# Altium footprint library TO.PcbLib: 23 footprints (part 2 of 2)
Each footprint in its own frame and in the unit in brackets; x right, y up, seen from the top. Pads: shape width x height; smd on the part's side, far side on the other; paste and mask are expansions set on the pad; w line width, h text height; cw(c..) or ccw(c..) is an arc to the next point about the centre after c.
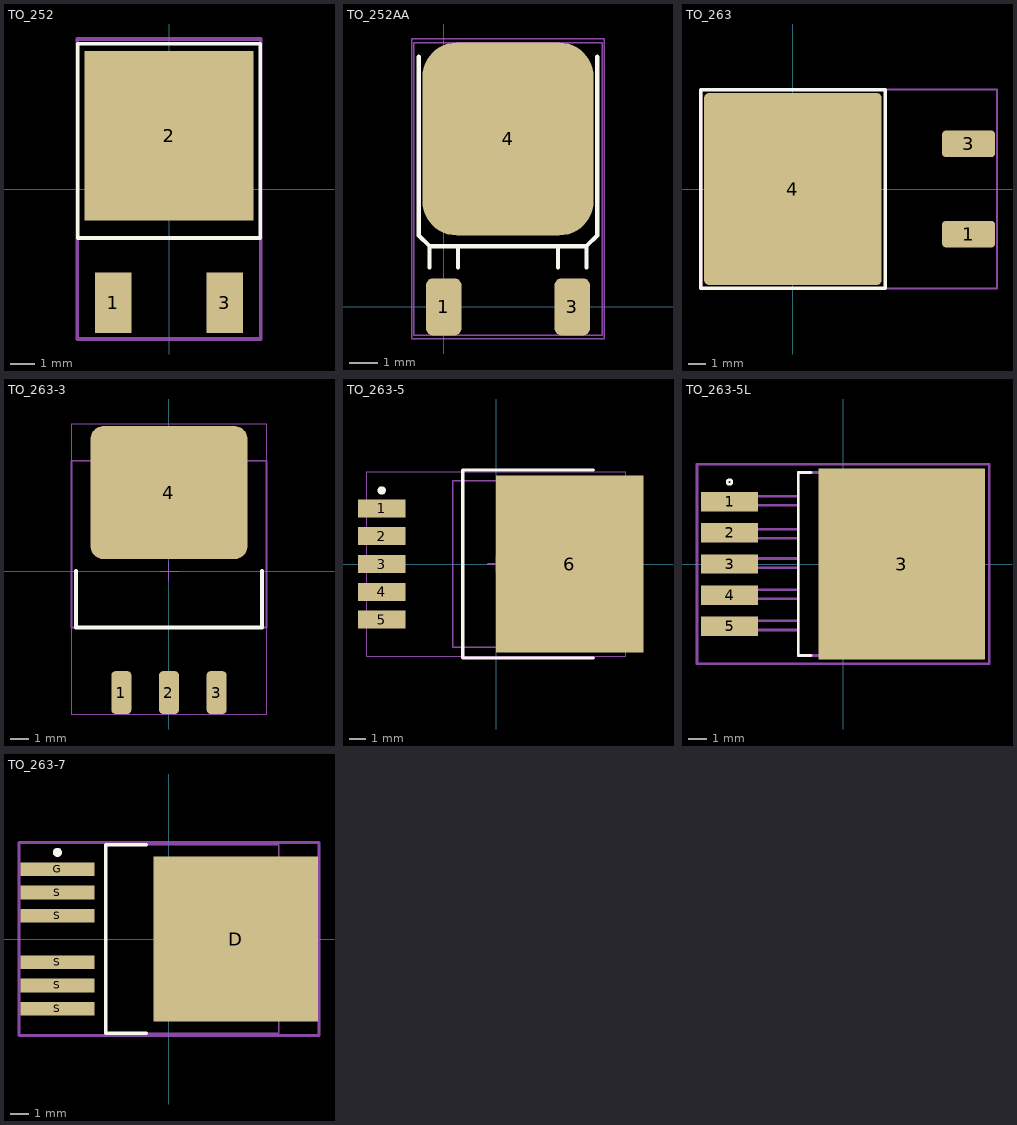
[diagram p1: the footprints below, top view; thin cyan lines are the x and y axes]

## TO_252 [mm]
pads (3):
  rect 1.5x2.5 smd: 1(-2.3,-4.7) 3(2.3,-4.7)
  rect 7x7 smd: 2(0,2.2)
Top Overlay:
  lines w0.15: -3.775,-2.025 -3.775,6 3.775,6 3.775,-2.025 0,-2.025 -3.775,-2.025
  text "." at -3.6,-5 h0.1
Top Courtyard:
  lines w0.15: -0.5,0 0.5,0 ; 0,-0.5 0,0.5 ; -3.8,-6.2 -3.8,6.2 3.8,6.2 3.8,-6.2 -3.8,-6.2
3D body "D-PAK.STEP": height 2.3, standoff 0, extent -3.222,-4.925 3.272,4.575

## TO_252AA [mil]
pads (3):
  rrect40% 50x80 smd: 1(0,0) 3(180,0)
  rrect40% 240x270 smd: 4(90,235)
Top Overlay:
  lines w6: -35,350 -35,100 -20,85 ; -20,55 -20,85 ; 20,55 20,85 ; 160,55 160,85 ; 200,55 200,85 ; 215,350 215,100 200,85 ; -20,85 200,85
Mechanical 13:
  lines w2: -42,-40 -42,370 222,370 222,-40 -42,-40
Mechanical 14:
  lines w2: -45,-45 225,-45 225,375 -45,375 -45,-45
3D body "TO-252.STEP": height 90.56, standoff -4.52, extent -38.73,-31.77 218.75,359.5

## TO_263 [mm]
pads (3):
  rrect30% 3x1.5 smd: 1(9.9,-2.54) 3(9.9,2.54)
  rrect5% 10x10.8 smd: 4(0,0)
Top Overlay:
  lines w0.2: -5.18,-5.6 5.2,-5.6 5.2,5.59 -5.18,5.59 -5.18,-5.6
Mechanical 8:
  lines w0.1: -5.15,-5.6 11.5,-5.6 11.5,5.6 -5.15,5.6 -5.15,-5.6
  text ".Designator" at -0.9,-0.65 h3.5
3D body "D2PAK_TO-263-2.step": height 4.69, standoff 0, extent -4.59,-5.08 10.85,5.08

## TO_263-3 [mil]
height 182.68
pads (4):
  rrect40% 42x90 smd: 1(-100,-255) 2(0,-255) 3(100,-255)
  rrect20% 330x280 smd: 4(0,165)
Top Overlay:
  lines w8: -195,0 -195,-118.11 195,-118.11 195,0
Mechanical 13:
  lines w2: -19.68,0 19.68,0 ; 0,-19.68 0,19.68
  lines w4: -204.72,-118.11 -204.72,231.89 204.72,231.89 204.72,-118.11 -204.72,-118.11
Mechanical 14:
  lines w2: -205,-300 -205,310 205,310 205,-300 -205,-300
3D body "SW3dPS-to-263.STEP": height 184.65, standoff 0, extent -199.99,-292.88 200.01,315

## TO_263-5 [mm]
height 4.57
pads (6):
  rect 2.9x1.1 smd: 1(-7,3.4) 2(-7,1.7) 3(-7,0) 4(-7,-1.7) 5(-7,-3.4)
  rect 9x10.8 smd: 6(4.5,0)
Top Overlay:
  circle w0.25: c-7,4.5 r0.125
  lines w0.2: 5.95,-5.75 -2.05,-5.75 -2.05,5.75 5.95,5.75
Mechanical 13:
  lines w0.1: -2.65,-5.1 -2.65,5.1 6,5.1 6,-5.1 -2.65,-5.1
Mechanical 15:
  lines w0.05: -7.925,-5.65 -7.925,5.65 7.925,5.65 7.925,-5.65 -7.925,-5.65
  lines w0.1: -0.5,0 0.5,0 ; 0,-0.5 0,0.5
3D body "SW3dPS-TO263-5.STEP": height 4.78, standoff -0.02, extent -7.835,-5 7.835,5

## TO_263-5L [mm] "D2-PAK, 6-Pads, Body 7,35x8,36mm (max), IPC Medium Density"
height 4.6
pads (6):
  rect 3.1x1.05 smd: 1(-6.2,3.4) 2(-6.2,1.7) 3(-6.2,0) 4(-6.2,-1.7) 5(-6.2,-3.4)
  rect 9.1x10.4 smd: 3(3.2,0)
Top Overlay:
  circle w0.15: c-6.2,4.475 r0.125
  lines w0.15: -1.75,-5 -2.45,-5 -2.45,5 -1.75,5
Top Courtyard:
  lines w0.15: -0.5,0 0.5,0 ; 0,-0.5 0,0.5 ; -7.975,-5.45 -7.975,5.45 7.975,5.45 7.975,-5.45 -7.975,-5.45
Mechanical 29:
  lines w0.15: -7.4,-3.6 -7.4,-3.1 -2.45,-3.1 -2.45,-3.6 -7.4,-3.6 ; -7.4,-1.9 -7.4,-1.4 -2.45,-1.4 -2.45,-1.9 -7.4,-1.9 ; -7.4,-0.2 -7.4,0.3 -2.45,0.3 -2.45,-0.2 -7.4,-0.2 ; -7.4,1.4 -7.4,1.9 -2.45,1.9 -2.45,1.4 -7.4,1.4 ; -7.4,3.2 -2.45,3.2 -2.45,3.7 -7.4,3.7 -7.4,3.2 ; -2.45,-5 -2.45,5 6.05,5 6.05,-5 -2.45,-5
  text ".Designator" at -1.2,-0.3 h1
3D body "TO263-5L.step": height 4.6, standoff 0, extent -6.665,-5.05 7.685,5.05

## TO_263-7 [mm]
height 4.6
pads (7):
  rect 9x9 smd: D(3.65,0)
  rect 4.05x0.75 smd: G(-6.1,3.81) S(-6.1,-3.81) S(-6.1,-2.54) S(-6.1,-1.27) S(-6.1,1.27) S(-6.1,2.54)
Top Overlay:
  circle w0.25: c-6.1,4.735 r0.125
  lines w0.2: -1.25,-5.15 -3.45,-5.15 -3.45,5.15 -1.25,5.15
Mechanical 13:
  lines w0.1: -3.45,-5.15 -3.45,5.15 6,5.15 6,-5.15 -3.45,-5.15
Mechanical 15:
  lines w0.15: -0.5,0 0.5,0 ; 0,-0.5 0,0.5 ; -8.2,-5.275 -8.2,5.275 8.2,5.275 8.2,-5.275 -8.2,-5.275
3D body "TO228P970-3N.step": height 4.85, standoff 0, extent -7.695,-5.15 7.55,5.15